# Altium footprint library CustomParts.PcbLib: 55 footprints (part 1 of 4)
Each footprint in its own frame and in the unit in brackets; x right, y up, seen from the top. Pads: shape width x height; smd on the part's side, far side on the other; paste and mask are expansions set on the pad; w line width, h text height; cw(c..) or ccw(c..) is an arc to the next point about the centre after c.
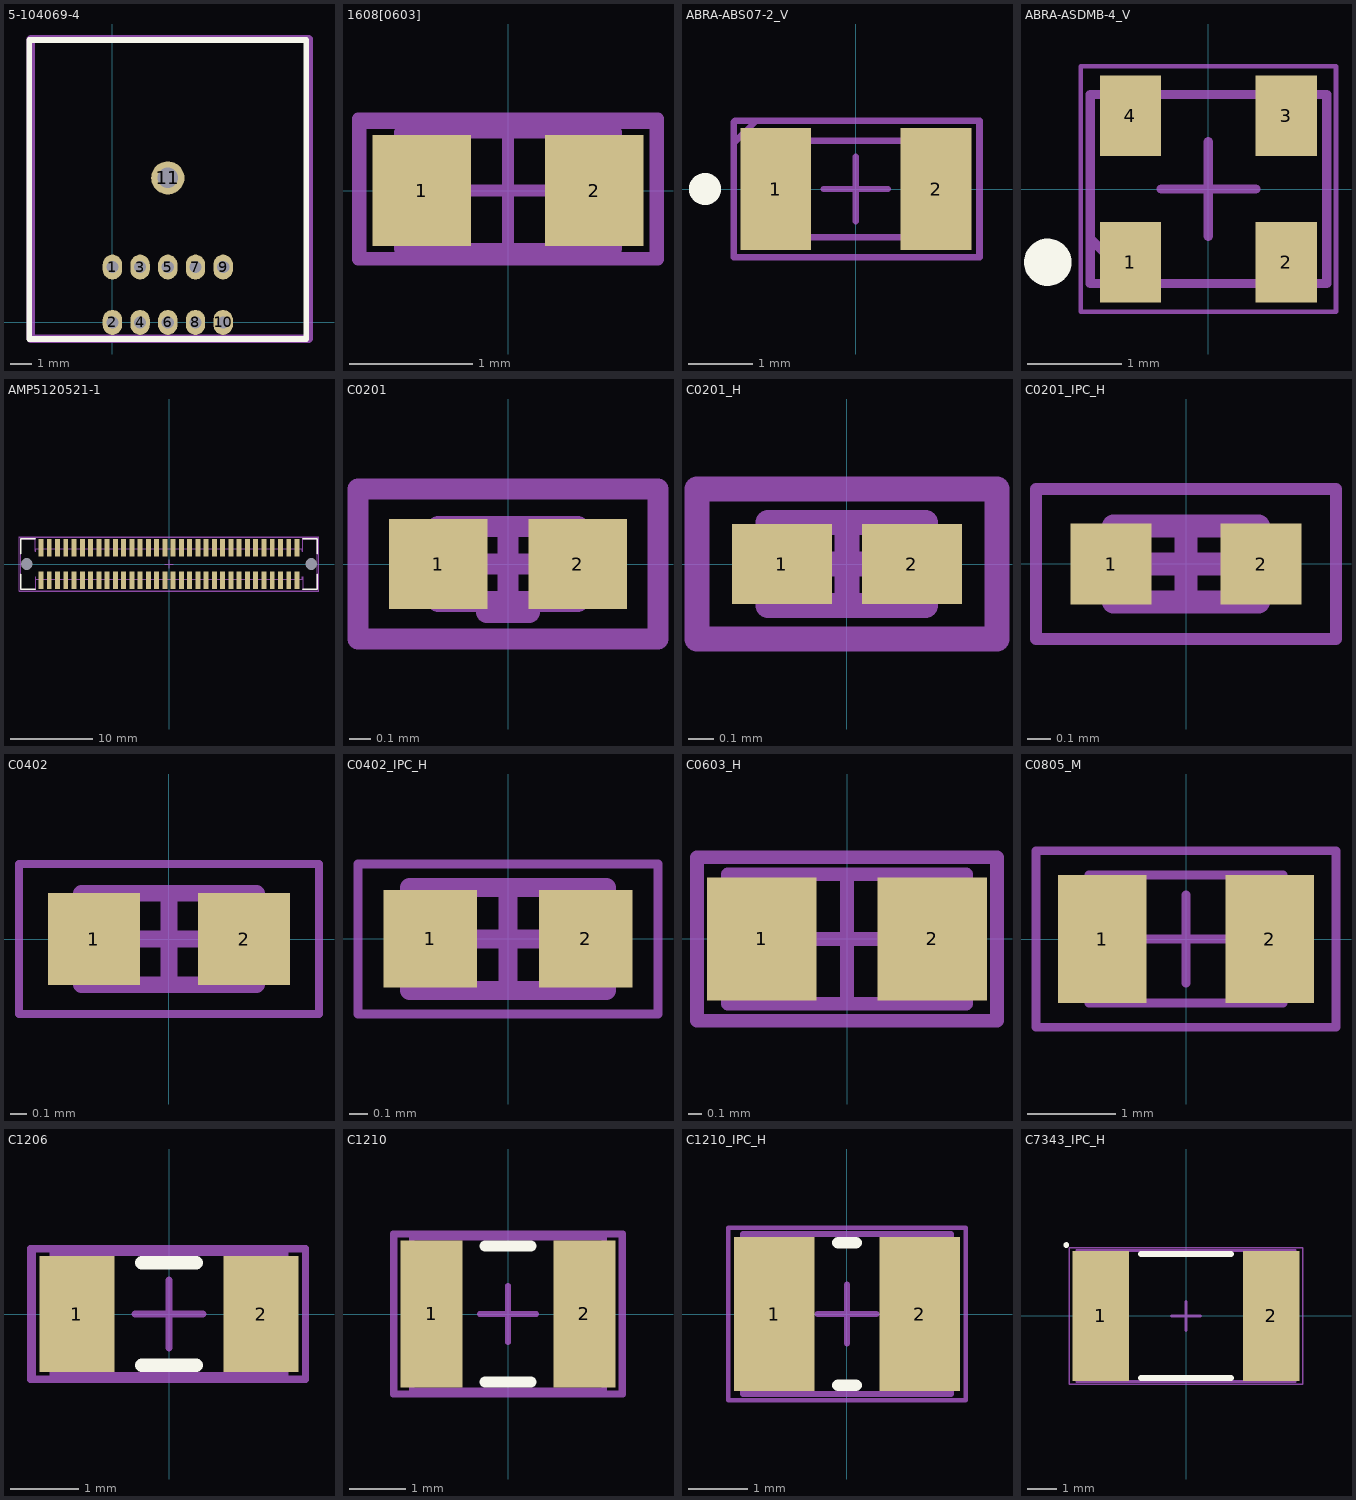
[diagram p0: the footprints below, top view; thin cyan lines are the x and y axes]

## 5-104069-4 [mil]
height 350
pads (11):
  rrect100% 35x45 hole 22: 1(0,100) 2(0,0) 3(50,100) 4(50,0) 5(100,100) 6(100,0) 7(150,100) 8(150,0) 9(200,100) 10(200,0)
  round 60 hole 37: 11(100,261)
Top Overlay:
  lines w10: -150,-30 -150,510 350,510 350,-30 -150,-30
Assembly Drawing:
  lines w15: -147.64,-29.53 354.33,-29.53 354.33,511.81 -147.64,511.81 -147.64,-29.53
  text ".Designator" at 59.06,226.38 h39.37
3D body "c-5-104069-4-z-3d.stp": height 355, standoff -95, extent -150,-30 350,510

## 1608[0603] [mm] "Chip Capacitor, Body 1.6x0.8mm, IPC High Density"
height 1.3
pads (2):
  rect 0.8x0.9 smd: 1(-0.7,0) 2(0.7,0)
Mechanical 13:
  lines w0.1: -0.875,-0.475 0.875,-0.475 0.875,0.475 -0.875,0.475 -0.875,-0.475
Mechanical 15:
  lines w0.1: -0.475,0 0.475,0 ; 0,-0.475 0,0.475 ; -1.2,-0.55 1.2,-0.55 1.2,0.55 -1.2,0.55 -1.2,-0.55
Assembly Drawing:
  lines w0.1: -1.219,-0.559 1.219,-0.559 1.219,0.584 -1.219,0.584 -1.219,-0.559
  text ".Designator" at -0.356,-0.127 h0.3
3D body: height 1.3, standoff 0, extent -0.875,-0.475 0.875,0.475

## ABRA-ABS07-2_V [mm] "Hand Drawn, 2-Leads, Body 3.2x1.5mm, Pitch 2.5mm"
height 0.9
pads (2):
  rect 1.1x1.9 smd: 1(-1.25,0) 2(1.25,0)
Top Overlay:
  circle w0.25: c-2.35,0 r0.125
Mechanical 13:
  lines w0.1: -1.6,-0.75 -1.6,0.75 1.6,0.75 1.6,-0.75 -1.6,-0.75
Mechanical 15:
  lines w0.05: -1.9,-1.05 -1.9,1.05 1.9,1.05 1.9,-1.05 -1.9,-1.05
  lines w0.1: -0.5,0 0.5,0 ; 0,-0.5 0,0.5
Assembly Drawing:
  lines w0.1: -1.905,0.635 -1.905,0.711 -1.575,1.041 ; -1.905,-1.067 1.93,-1.067 1.93,1.067 -1.88,1.067 -1.905,1.041 -1.905,-1.067
  text ".Designator" at -0.66,-0.305 h0.6
3D body: height 0.9, standoff 0, extent -1.6,-0.75 1.6,0.75

## ABRA-ASDMB-4_V [mm] "SMD, 4-Leads, Body 2.5x2mm, Height 0.9mm"
height 0.9
pads (4):
  rect 0.65x0.85 smd: 1(-0.825,-0.775) 2(0.825,-0.775) 3(0.825,0.775) 4(-0.825,0.775)
Top Overlay:
  circle w0.25: c-1.7,-0.775 r0.125
Mechanical 13:
  lines w0.1: -1.25,-1 -1.25,1 1.25,1 1.25,-1 -1.25,-1
Mechanical 15:
  lines w0.05: -1.35,-1.3 1.35,-1.3 1.35,1.3 -1.35,1.3 -1.35,-1.3
  lines w0.1: -0.5,0 0.5,0 ; 0,-0.5 0,0.5
Assembly Drawing:
  lines w0.1: -1.25,-0.525 -0.775,-1 1.25,-1 1.25,1 -1.25,1 -1.25,-0.525
  text ".Designator" at -0.7,-0.225 h0.5
3D body: height 0.9, standoff 0, extent -1.25,-1 1.25,1

## AMP5120521-1 [mm] "Board-to-Board Connector, Vertical, 2-Row, Pitch 1mm, 64-Position, Female"
height 5.3
pads (66):
  rect 0.6x2.1 smd: 1(-15.5,1.95) 2(-15.5,-1.95) 3(-14.5,1.95) 4(-14.5,-1.95) 5(-13.5,1.95) 6(-13.5,-1.95) 7(-12.5,1.95) 8(-12.5,-1.95) 9(-11.5,1.95) 10(-11.5,-1.95) 11(-10.5,1.95) 12(-10.5,-1.95) 13(-9.5,1.95) 14(-9.5,-1.95) 15(-8.5,1.95) 16(-8.5,-1.95) 17(-7.5,1.95) 18(-7.5,-1.95) 19(-6.5,1.95) 20(-6.5,-1.95) 21(-5.5,1.95) 22(-5.5,-1.95) 23(-4.5,1.95) 24(-4.5,-1.95) 25(-3.5,1.95) 26(-3.5,-1.95) 27(-2.5,1.95) 28(-2.5,-1.95) 29(-1.5,1.95) 30(-1.5,-1.95) 31(-0.5,1.95) 32(-0.5,-1.95) 33(0.5,1.95) 34(0.5,-1.95) 35(1.5,1.95) 36(1.5,-1.95) 37(2.5,1.95) 38(2.5,-1.95) 39(3.5,1.95) 40(3.5,-1.95) 41(4.5,1.95) 42(4.5,-1.95) 43(5.5,1.95) 44(5.5,-1.95) 45(6.5,1.95) 46(6.5,-1.95) 47(7.5,1.95) 48(7.5,-1.95) 49(8.5,1.95) 50(8.5,-1.95) 51(9.5,1.95) 52(9.5,-1.95) 53(10.5,1.95) 54(10.5,-1.95) 55(11.5,1.95) 56(11.5,-1.95) 57(12.5,1.95) 58(12.5,-1.95) 59(13.5,1.95) 60(13.5,-1.95) 61(14.5,1.95) 62(14.5,-1.95) 63(15.5,1.95) 64(15.5,-1.95)
  round 1.1 hole 1.4 unplated: MH1(-17.2,0) MH2(17.2,0)
Top Overlay:
  lines w0.2: -17.95,-1.25 -17.95,-3.05 -16.2,-3.05 ; -17.95,1.25 -17.95,3.05 -16.2,3.05 ; 16.2,-3.05 17.95,-3.05 17.95,-1.25 ; 16.2,3.05 17.95,3.05 17.95,1.25
Mechanical 13:
  lines w0.1: -17.95,-3.05 -17.95,3.05 -16.2,3.05 -16.204,1.53 -16.104,1.53 -16.104,1.83 16.11,1.83 16.11,1.53 16.2,1.53 16.2,3.05 17.95,3.05 17.95,-3.05 16.2,-3.05 16.197,-1.53 16.107,-1.53 16.107,-1.83 -16.107,-1.83 -16.107,-1.53 -16.207,-1.53 -16.2,-3.05 -17.95,-3.05
Mechanical 15:
  lines w0.1: -0.5,0 0.5,0 ; 0,-0.5 0,0.5 ; -18.15,-3.25 -18.15,3.25 -16.2,3.25 16.2,3.25 18.15,3.25 18.15,-3.25 16.2,-3.25 -16.2,-3.25 -18.15,-3.25
Assembly Drawing:
  lines w0.1: -18.161,-3.302 18.161,-3.302 18.161,3.302 -18.161,3.302 -18.161,-3.302
  text ".Designator" at -1.524,-0.889 h2
3D body: height 1.05, standoff 0, extent -17.95,-3.05 -16.2,3.05
3D body: height 3, standoff 0, extent 16.197,-1.53 17.104,-0.4
3D body: height 3, standoff 0, extent 16.2,0.4 17.107,1.53
3D body: height 5.31, standoff 1.35, extent -15.803,-1.35 -15.203,-0.252
3D body: height 5.31, standoff 1.35, extent -14.803,-1.35 -14.203,-0.252
3D body: height 5.31, standoff 1.35, extent -13.803,-1.35 -13.203,-0.252
3D body: height 5.31, standoff 1.35, extent -12.803,-1.35 -12.203,-0.252
3D body: height 5.31, standoff 1.35, extent -11.803,-1.35 -11.203,-0.252
3D body: height 5.31, standoff 1.35, extent -10.803,-1.35 -10.203,-0.252
3D body: height 5.31, standoff 1.35, extent -9.803,-1.35 -9.203,-0.252
3D body: height 5.31, standoff 1.35, extent -8.803,-1.35 -8.203,-0.252
3D body: height 5.31, standoff 1.35, extent -7.803,-1.35 -7.203,-0.252
3D body: height 5.31, standoff 1.35, extent -6.803,-1.35 -6.203,-0.252
3D body: height 5.31, standoff 1.35, extent -5.803,-1.35 -5.203,-0.252
3D body: height 5.31, standoff 1.35, extent -4.803,-1.35 -4.203,-0.252
3D body: height 5.31, standoff 1.35, extent -3.803,-1.35 -3.203,-0.252
3D body: height 5.31, standoff 1.35, extent -2.803,-1.35 -2.203,-0.252
3D body: height 5.31, standoff 1.35, extent -1.803,-1.35 -1.203,-0.252
3D body: height 5.31, standoff 1.35, extent -0.803,-1.35 -0.203,-0.252
3D body: height 5.31, standoff 1.35, extent 0.197,-1.35 0.797,-0.252
3D body: height 5.31, standoff 1.35, extent 1.197,-1.35 1.797,-0.252
3D body: height 5.31, standoff 1.35, extent 2.197,-1.35 2.797,-0.252
3D body: height 5.31, standoff 1.35, extent 3.197,-1.35 3.797,-0.252
3D body: height 5.31, standoff 1.35, extent 4.197,-1.35 4.797,-0.252
3D body: height 5.31, standoff 1.35, extent 5.197,-1.35 5.797,-0.252
3D body: height 5.31, standoff 1.35, extent 6.197,-1.35 6.797,-0.252
3D body: height 5.31, standoff 1.35, extent 7.197,-1.35 7.797,-0.252
3D body: height 5.31, standoff 1.35, extent 8.197,-1.35 8.797,-0.252
3D body: height 5.31, standoff 1.35, extent 9.197,-1.35 9.797,-0.252
3D body: height 5.31, standoff 1.35, extent 10.197,-1.35 10.797,-0.252
3D body: height 5.31, standoff 1.35, extent 11.197,-1.35 11.797,-0.252
3D body: height 5.31, standoff 1.35, extent 12.197,-1.35 12.797,-0.252
3D body: height 5.31, standoff 1.35, extent 13.197,-1.35 13.797,-0.252
3D body: height 5.31, standoff 1.35, extent 14.197,-1.35 14.797,-0.252
3D body: height 5.31, standoff 1.35, extent 15.197,-1.35 15.797,-0.252
3D body: height 5.31, standoff 1.35, extent 15.197,-1.35 15.797,-0.252
3D body: height 3, standoff 0, extent -17.107,-1.53 -16.204,-0.4
3D body: height 3.71, standoff 0, extent -17.11,-0.4 -16.91,0.4
3D body: height 3.05, standoff 0.15, extent -16.61,-0.401 16.611,0.401
3D body: height 3.71, standoff 0, extent 16.907,-0.4 17.107,0.4
3D body: height 5.31, standoff 1.35, extent -16.203,-1.53 16.197,-1.43
3D body: height 5.31, standoff 2.06, extent -17.107,-1.83 17.107,-0.4
3D body: height 5.31, standoff 2.06, extent -17.104,0.4 17.11,1.83
3D body: height 1.05, standoff 0, extent 16.2,-3.05 17.95,3.05
3D body: height 5.31, standoff 1.35, extent -16.2,1.43 16.2,1.53
3D body: height 3.71, standoff 0, extent 16.91,-0.4 17.11,0.4
3D body: height 3.05, standoff 0.15, extent -16.607,-0.4 16.614,0.401
3D body: height 3.71, standoff 0, extent -17.107,-0.4 -16.907,0.4
3D body: height 3, standoff 0, extent -17.104,0.4 -16.201,1.53
3D body: height 5.31, standoff 1.35, extent 15.2,0.252 15.8,1.35
3D body: height 5.31, standoff 1.35, extent 15.2,0.252 15.8,1.35
3D body: height 5.31, standoff 1.35, extent 14.2,0.252 14.8,1.35
3D body: height 5.31, standoff 1.35, extent 12.2,0.252 12.8,1.35
3D body: height 5.31, standoff 1.35, extent 11.2,0.252 11.8,1.35
3D body: height 5.31, standoff 1.35, extent 10.2,0.252 10.8,1.35
3D body: height 5.31, standoff 1.35, extent 9.2,0.252 9.8,1.35
3D body: height 5.31, standoff 1.35, extent 8.2,0.252 8.8,1.35
3D body: height 5.31, standoff 1.35, extent 7.2,0.252 7.8,1.35
3D body: height 5.31, standoff 1.35, extent 6.2,0.252 6.8,1.35
3D body: height 5.31, standoff 1.35, extent 5.2,0.252 5.8,1.35
3D body: height 5.31, standoff 1.35, extent 4.2,0.252 4.8,1.35
3D body: height 5.31, standoff 1.35, extent 3.2,0.252 3.8,1.35
3D body: height 5.31, standoff 1.35, extent 2.2,0.252 2.8,1.35
3D body: height 5.31, standoff 1.35, extent 1.2,0.252 1.8,1.35
3D body: height 5.31, standoff 1.35, extent 0.2,0.252 0.8,1.35
3D body: height 5.31, standoff 1.35, extent -0.8,0.252 -0.2,1.35
3D body: height 5.31, standoff 1.35, extent -1.8,0.252 -1.2,1.35
3D body: height 5.31, standoff 1.35, extent -2.8,0.252 -2.2,1.35
3D body: height 5.31, standoff 1.35, extent -3.8,0.252 -3.2,1.35
3D body: height 5.31, standoff 1.35, extent -4.8,0.252 -4.2,1.35
3D body: height 5.31, standoff 1.35, extent -5.8,0.252 -5.2,1.35
3D body: height 5.31, standoff 1.35, extent -6.8,0.252 -6.2,1.35
3D body: height 5.31, standoff 1.35, extent -7.8,0.252 -7.2,1.35
3D body: height 5.31, standoff 1.35, extent -8.8,0.252 -8.2,1.35
3D body: height 5.31, standoff 1.35, extent -9.8,0.252 -9.2,1.35
3D body: height 5.31, standoff 1.35, extent -10.8,0.252 -10.2,1.35
3D body: height 5.31, standoff 1.35, extent -11.8,0.252 -11.2,1.35
3D body: height 5.31, standoff 1.35, extent -12.8,0.252 -12.2,1.35
3D body: height 5.31, standoff 1.35, extent -13.8,0.252 -13.2,1.35
3D body: height 5.31, standoff 1.35, extent -14.8,0.252 -14.2,1.35
3D body: height 5.31, standoff 1.35, extent -15.8,0.252 -15.2,1.35
3D body: height 0, standoff -1.06, extent -17.795,-0.599 -16.6,0.599
3D body: height 0, standoff -1.06, extent 16.605,-0.599 17.8,0.599
3D body: height 5.31, standoff 1.35, extent 13.2,0.251 13.8,1.349

## C0201 [mm] "Chip Capacitor, 2-Leads, Body 0.60x0.30mm, IPC Medium Density"
height 0.35
pads (2):
  rect 0.46x0.42 smd: 1(-0.325,0) 2(0.325,0)
Mechanical 13:
  lines w0.1: -0.325,-0.175 -0.325,0.175 0.325,0.175 0.325,-0.175 -0.325,-0.175
Mechanical 15:
  lines w0.05: -0.7,-0.35 -0.7,0.35 0.7,0.35 0.7,-0.35 -0.7,-0.35
  lines w0.1: -0.175,0 0.175,0 ; 0,-0.175 0,0.175
Assembly Drawing:
  lines w0.1: -0.1,-0.225 0.1,-0.225 ; -0.7,-0.35 0.7,-0.35 0.7,0.35 -0.7,0.35 -0.7,-0.35
  text ".Designator" at -0.425,-0.125 h0.3
3D body: height 0.23, standoff 0, extent -0.175,-0.175 0.175,0.175
3D body: height 0.23, standoff 0, extent -0.325,-0.175 -0.175,0.175
3D body: height 0.23, standoff 0, extent 0.175,-0.175 0.325,0.175

## C0201_H [mm] "Chip Capacitor, 2-Leads, Body 0.60x0.30mm, IPC High Density"
height 0.2
pads (2):
  rect 0.4x0.32 smd: 1(-0.26,0) 2(0.26,0)
Mechanical 13:
  lines w0.1: -0.315,-0.165 0.315,-0.165 0.315,0.165 -0.315,0.165 -0.315,-0.165
Mechanical 15:
  lines w0.05: -0.6,-0.3 0.6,-0.3 0.6,0.3 -0.6,0.3 -0.6,-0.3
  lines w0.1: -0.165,0 0.165,0 ; 0,-0.165 0,0.165
Assembly Drawing:
  lines w0.1: -0.6,-0.3 0.6,-0.3 0.6,0.3 -0.6,0.3 -0.6,-0.3
  text ".Designator" at -0.405,-0.152 h0.3
3D body: height 0.2, standoff 0, extent 0.165,-0.165 0.315,0.165
3D body: height 0.2, standoff 0, extent -0.315,-0.165 -0.165,0.165
3D body: height 0.2, standoff 0, extent -0.165,-0.165 0.165,0.165

## C0201_IPC_H [mm] "Chip Capacitor, 2-Leads, Body 0.60x0.30mm, IPC High Density"
height 0.33
pads (2):
  rect 0.35x0.35 smd: 1(-0.325,0) 2(0.325,0)
Mechanical 13:
  lines w0.1: -0.315,-0.165 0.315,-0.165 0.315,0.165 -0.315,0.165 -0.315,-0.165
Mechanical 15:
  lines w0.05: -0.65,-0.325 0.65,-0.325 0.65,0.325 -0.65,0.325 -0.65,-0.325
  lines w0.1: -0.165,0 0.165,0 ; 0,-0.165 0,0.165
Assembly Drawing:
  lines w0.05: -0.65,-0.325 0.65,-0.325 0.65,0.325 -0.65,0.325 -0.65,-0.325
  text ".Designator" at -0.475,-0.15 h0.3
3D body "C0201_IPC_H.step": height 0.33, standoff 0, extent -0.315,-0.165 0.315,0.165

## C0402 [mm] "Chip Capacitor, Body 1.0x0.5mm, IPC High Density"
height 1.3
pads (2):
  rect 0.55x0.55 smd: 1(-0.45,0) 2(0.45,0)
Mechanical 13:
  lines w0.1: -0.525,-0.275 -0.525,0.275 0.525,0.275 0.525,-0.275 -0.525,-0.275
Mechanical 15:
  lines w0.05: -0.9,-0.45 -0.9,0.45 0.9,0.45 0.9,-0.45 -0.9,-0.45
  lines w0.1: -0.275,0 0.275,0 ; 0,-0.275 0,0.275
Assembly Drawing:
  text ".Designator" at -0.225,-0.15 h0.3
3D body: height 0.35, standoff 0, extent -0.275,-0.275 0.275,0.275
3D body: height 0.35, standoff 0, extent -0.525,-0.275 -0.275,0.275
3D body: height 0.35, standoff 0, extent 0.275,-0.275 0.525,0.275

## C0402_IPC_H [mm] "Chip Capacitor, 2-Leads, Body 1.00x0.50mm, IPC High Density"
height 0.55
pads (2):
  rect 0.5x0.52 smd: 1(-0.415,0) 2(0.415,0)
Mechanical 13:
  lines w0.1: -0.525,-0.275 -0.525,0.275 0.525,0.275 0.525,-0.275 -0.525,-0.275
Mechanical 15:
  lines w0.05: -0.8,-0.4 -0.8,0.4 0.8,0.4 0.8,-0.4 -0.8,-0.4
  lines w0.1: -0.275,0 0.275,0 ; 0,-0.275 0,0.275
Assembly Drawing:
  lines w0.05: -0.8,-0.4 -0.8,0.4 0.8,0.4 0.8,-0.4 -0.8,-0.4
  text ".Designator" at -0.5,-0.1 h0.3
3D body "C0402_IPC_H.step": height 0.55, standoff 0, extent -0.525,-0.275 0.525,0.275

## C0603_H [mm] "Chip Capacitor, 2-Leads, Body 1.60x0.80mm, IPC High Density"
height 1.2
pads (2):
  rect 0.8x0.9 smd: 1(-0.625,0) 2(0.625,0)
Mechanical 13:
  lines w0.1: -0.875,-0.475 -0.875,0.475 0.875,0.475 0.875,-0.475 -0.875,-0.475
Mechanical 15:
  lines w0.05: -1.1,-0.6 -1.1,0.6 1.1,0.6 1.1,-0.6 -1.1,-0.6
  lines w0.1: -0.475,0 0.475,0 ; 0,-0.475 0,0.475
Assembly Drawing:
  lines w0.1: -1.1,-0.6 1.1,-0.6 1.1,0.6 -1.1,0.6 -1.1,-0.6
  text ".Designator" at -0.686,-0.279 h0.6
3D body: height 1, standoff 0, extent -0.525,-0.475 0.525,0.475
3D body: height 1, standoff 0, extent -0.875,-0.475 -0.525,0.475
3D body: height 1, standoff 0, extent 0.525,-0.475 0.875,0.475

## C0805_M [mm] "Chip Capacitor, 2-Leads, Body 2.00x1.25mm, IPC Medium Density"
height 1.4
pads (2):
  rect 1x1.45 smd: 1(-0.95,0) 2(0.95,0)
Mechanical 13:
  lines w0.1: -1.1,-0.725 1.1,-0.725 1.1,0.725 -1.1,0.725 -1.1,-0.725
Mechanical 15:
  lines w0.05: -1.7,-1 1.7,-1 1.7,1 -1.7,1 -1.7,-1
  lines w0.1: -0.5,0 0.5,0 ; 0,-0.5 0,0.5
Assembly Drawing:
  lines w0.1: -1.7,-1 -1.7,1 1.7,1 1.7,-1 -1.7,-1
  text ".Designator" at -0.575,-0.25 h0.6
3D body: height 1, standoff 0, extent 0.4,-0.625 0.9,0.625
3D body: height 1, standoff 0, extent -1.1,-0.625 -0.6,0.625
3D body: height 1, standoff 0, extent -0.6,-0.625 0.4,0.625

## C1206 [mm] "Chip Capacitor, Body 3.2x1.6mm, IPC High Density"
height 1.3
pads (2):
  rect 1.1x1.7 smd: 1(-1.35,0) 2(1.35,0)
Top Overlay:
  lines w0.2: -0.4,-0.75 0.4,-0.75 ; -0.4,0.75 0.4,0.75
Mechanical 13:
  lines w0.1: -1.7,-0.9 -1.7,0.9 1.7,0.9 1.7,-0.9 -1.7,-0.9
Mechanical 15:
  lines w0.1: -0.5,0 0.5,0 ; 0,-0.5 0,0.5 ; -2,-0.95 -2,0.95 2,0.95 2,-0.95 -2,-0.95
Assembly Drawing:
  lines w0.1: -2.032,-0.965 2.007,-0.965 2.007,0.965 -2.032,0.965 -2.032,-0.965
  text ".Designator" at -0.686,-0.254 h0.6
3D body: height 1.3, standoff 0, extent -1.7,-0.9 1.7,0.9

## C1210 [mm] "Chip Capacitor, Body 3.2x2.5mm, IPC High Density"
height 1.3
pads (2):
  rect 1.1x2.6 smd: 1(-1.35,0) 2(1.35,0)
Top Overlay:
  lines w0.2: -0.4,-1.2 0.4,-1.2 ; -0.4,1.2 0.4,1.2
Mechanical 13:
  lines w0.1: -1.7,-1.35 -1.7,1.35 1.7,1.35 1.7,-1.35 -1.7,-1.35
Mechanical 15:
  lines w0.1: -0.5,0 0.5,0 ; 0,-0.5 0,0.5 ; -2,-1.4 -2,1.4 2,1.4 2,-1.4 -2,-1.4
Assembly Drawing:
  lines w0.1: -2.032,-1.422 -2.032,1.422 2.032,1.422 2.032,-1.422 -2.032,-1.422
  text ".Designator" at -0.635,-0.254 h0.6
3D body: height 1.3, standoff 0, extent -1.7,-1.35 1.7,1.35

## C1210_IPC_H [mm] "Chip Capacitor, 2-Leads, Body 3.20x2.50mm, IPC High Density"
height 2.7
pads (2):
  rect 1.35x2.6 smd: 1(-1.225,0) 2(1.225,0)
Top Overlay:
  lines w0.2: -0.15,-1.2 0.15,-1.2 ; -0.15,1.2 0.15,1.2
Mechanical 13:
  lines w0.1: -1.75,-1.35 1.75,-1.35 1.75,1.35 -1.75,1.35 -1.75,-1.35
Mechanical 15:
  lines w0.05: -2,-1.45 2,-1.45 2,1.45 -2,1.45 -2,-1.45
  lines w0.1: -0.5,0 0.5,0 ; 0,-0.5 0,0.5
Assembly Drawing:
  lines w0.08: -2,-1.45 -2,1.45 2,1.45 2,-1.45 -2,-1.45
  text ".Designator" at -1.075,-0.325 h0.8
3D body "C1210_IPC_H.step": height 2.7, standoff 0, extent -1.75,-1.35 1.75,1.35

## C7343_IPC_H [mm] "Chip Capacitor, 2-Leads, Body 7.30x4.35mm, IPC High Density"
height 4.3
pads (2):
  rect 1.95x4.45 smd: 1(-2.925,0) 2(2.925,0)
Top Overlay:
  circle w0.1: c-4.112,2.437 r0.05
  lines w0.2: -1.55,-2.125 1.55,-2.125 ; -1.55,2.125 1.55,2.125
Mechanical 13:
  lines w0.1: -3.75,-2.25 -3.75,2.25 3.75,2.25 3.75,-2.25 -3.75,-2.25
Mechanical 15:
  lines w0.05: -4,-2.35 -4,2.35 4,2.35 4,-2.35 -4,-2.35
  lines w0.1: -0.5,0 0.5,0 ; 0,-0.5 0,0.5
3D body "E__E90.stp": height 4.22, standoff 0.02, extent -3.704,-2.225 3.695,2.225